# EAGLE library part AS-ITM-00078 (library tinycircuits)
Molex 36 Pin FFC connector
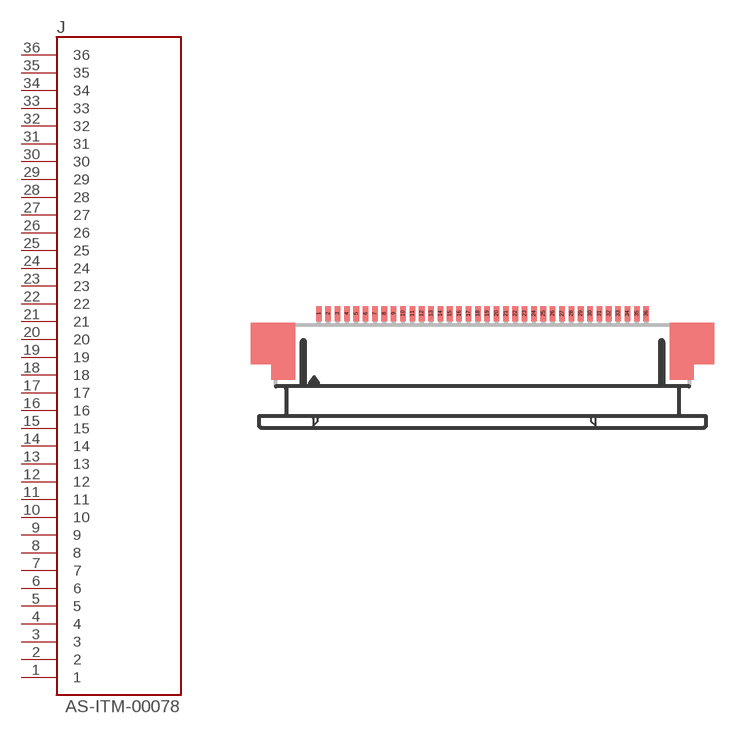
[diagram p29: symbol with the pads of MOLEX_36_PIN_FFC; footprint MOLEX_36_PIN_FFC]

Designator prefix J

## AS-ITM-00078 (PARTNO: AS-ITM-00078; VALUE: 0541323662)  [MOLEX_36_PIN_FFC]
1  1
2  2
3  3
4  4
5  5
6  6
7  7
8  8
9  9
10  10
11  11
12  12
13  13
14  14
15  15
16  16
17  17
18  18
19  19
20  20
21  21
22  22
23  23
24  24
25  25
26  26
27  27
28  28
29  29
30  30
31  31
32  32
33  33
34  34
35  35
36  36

## Footprint MOLEX_36_PIN_FFC (pad centres in mm)
smd 0.3 x 0.8: 1 -8.25,2.5; 2 -7.75,2.5; 3 -7.25,2.5; 4 -6.75,2.5; 5 -6.25,2.5; 6 -5.75,2.5; 7 -5.25,2.5; 8 -4.75,2.5; 9 -4.25,2.5; 10 -3.75,2.5; 11 -3.25,2.5; 12 -2.75,2.5; 13 -2.25,2.5; 14 -1.75,2.5; 15 -1.25,2.5; 16 -0.75,2.5; 17 -0.25,2.5; 18 0.25,2.5; 19 0.75,2.5; 20 1.25,2.5; 21 1.75,2.5; 22 2.25,2.5; 23 2.75,2.5; 24 3.25,2.5; 25 3.75,2.5; 26 4.25,2.5; 27 4.75,2.5; 28 5.25,2.5; 29 5.75,2.5; 30 6.25,2.5; 31 6.75,2.5; 32 7.25,2.5; 33 7.75,2.5; 34 8.25,2.5; 35 8.75,2.5; 36 9.25,2.5